# Altium footprint library Diodes.PcbLib: 6 footprints
Each footprint in its own frame and in the unit in brackets; x right, y up, seen from the top. Pads: shape width x height; smd on the part's side, far side on the other; paste and mask are expansions set on the pad; w line width, h text height; cw(c..) or ccw(c..) is an arc to the next point about the centre after c.
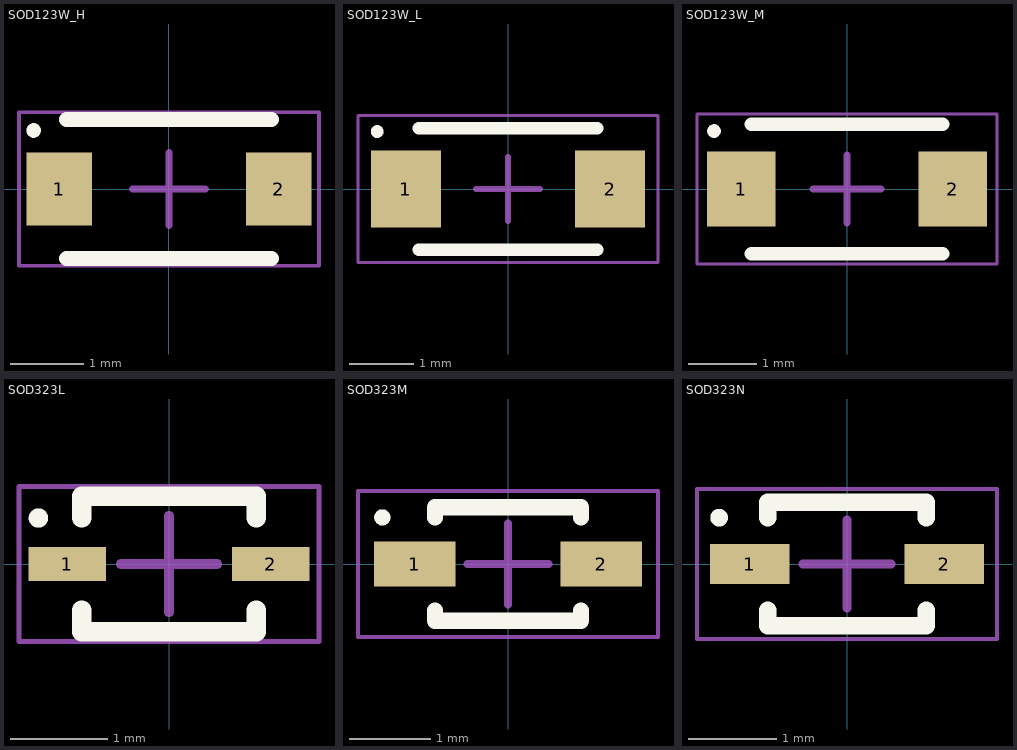
[diagram p0: the footprints below, top view; thin cyan lines are the x and y axes]

## SOD123W_H [mm] "SODFL, 2-Leads, Body 1.70x3.50mm, IPC High Density"
height 1.1
pads (2):
  rect 0.9x1 smd: 1(-1.5,0) 2(1.5,0)
Top Overlay:
  circle w0.1: c-1.85,0.8 r0.05
  lines w0.2: -1.4,-0.95 1.4,-0.95 ; -1.4,0.95 1.4,0.95
Mechanical 15:
  lines w0.05: -2.05,-1.05 -2.05,1.05 2.05,1.05 2.05,-1.05 -2.05,-1.05
  lines w0.1: -0.5,0 0.5,0 ; 0,-0.5 0,0.5
3D body "User Library-SOD123W.step": height 1.1, standoff -0.01, extent -2,-0.95 2,0.95

## SOD123W_L [mm] "SODFL, 2-Leads, Body 1.70x3.50mm, IPC Low Density"
height 1.1
pads (2):
  rect 1.1x1.2 smd: 1(-1.6,0) 2(1.6,0)
Top Overlay:
  circle w0.1: c-2.05,0.9 r0.05
  lines w0.2: -1.4,-0.95 1.4,-0.95 ; -1.4,0.95 1.4,0.95
Mechanical 15:
  lines w0.05: -2.35,-1.15 2.35,-1.15 2.35,1.15 -2.35,1.15 -2.35,-1.15
  lines w0.1: -0.5,0 0.5,0 ; 0,-0.5 0,0.5
3D body "User Library-SOD123W.step": height 1.1, standoff -0.01, extent -2,-0.95 2,0.95

## SOD123W_M [mm] "SODFL, 2-Leads, Body 1.70x3.50mm, IPC Medium Density"
height 1.1
pads (2):
  rect 1x1.1 smd: 1(-1.55,0) 2(1.55,0)
Top Overlay:
  circle w0.1: c-1.95,0.85 r0.05
  lines w0.2: -1.4,-0.95 1.4,-0.95 ; -1.4,0.95 1.4,0.95
Mechanical 15:
  lines w0.05: -2.2,-1.1 -2.2,1.1 2.2,1.1 2.2,-1.1 -2.2,-1.1
  lines w0.1: -0.5,0 0.5,0 ; 0,-0.5 0,0.5
3D body "User Library-SOD123W.step": height 1.1, standoff -0.01, extent -2,-0.95 2,0.95

## SOD323L [mm] "SODFL, 2-Leads, Body 1,25x2,50mm, IPC High Density"
height 0.8
pads (2):
  rect 0.8x0.35 smd: 1(-1.05,0) 2(1.05,0)
Top Overlay:
  circle w0.1: c-1.35,0.475 r0.05
  lines w0.2: -0.9,-0.475 -0.9,-0.7 0.9,-0.7 0.9,-0.475 ; -0.9,0.475 -0.9,0.7 0.9,0.7 0.9,0.475
Mechanical 15:
  lines w0.05: -1.55,-0.8 -1.55,0.8 1.55,0.8 1.55,-0.8 -1.55,-0.8
  lines w0.1: -0.5,0 0.5,0 ; 0,-0.5 0,0.5
3D body "User Library-SOD323-1.step": height 1.1, standoff 0, extent -1.3,-0.675 1.3,0.675

## SOD323M [mm] "SODFL, 2-Leads, Body 1,25x2,50mm, IPC Low Density"
height 0.8
pads (2):
  rect 1x0.55 smd: 1(-1.15,0) 2(1.15,0)
Top Overlay:
  circle w0.1: c-1.55,0.575 r0.05
  lines w0.2: -0.9,-0.575 -0.9,-0.7 0.9,-0.7 0.9,-0.575 ; -0.9,0.575 -0.9,0.7 0.9,0.7 0.9,0.575
Mechanical 15:
  lines w0.05: -1.85,-0.9 1.85,-0.9 1.85,0.9 -1.85,0.9 -1.85,-0.9
  lines w0.1: -0.5,0 0.5,0 ; 0,-0.5 0,0.5
3D body "User Library-SOD323-1.step": height 1.1, standoff 0, extent -1.3,-0.675 1.3,0.675

## SOD323N [mm] "SODFL, 2-Leads, Body 1,25x2,50mm, IPC Medium Density"
height 0.8
pads (2):
  rect 0.9x0.45 smd: 1(-1.1,0) 2(1.1,0)
Top Overlay:
  circle w0.1: c-1.45,0.525 r0.05
  lines w0.2: -0.9,-0.525 -0.9,-0.7 0.9,-0.7 0.9,-0.525 ; -0.9,0.525 -0.9,0.7 0.9,0.7 0.9,0.525
Mechanical 15:
  lines w0.05: -1.7,-0.85 -1.7,0.85 1.7,0.85 1.7,-0.85 -1.7,-0.85
  lines w0.1: -0.5,0 0.5,0 ; 0,-0.5 0,0.5
3D body "User Library-SOD323-1.step": height 1.1, standoff 0, extent -1.3,-0.675 1.3,0.675